# Altium schematic symbol library MB0011A.01.A.2.SchLib: 1 symbol
Pins are listed as number, name and electrical type; pins without a type are passive.

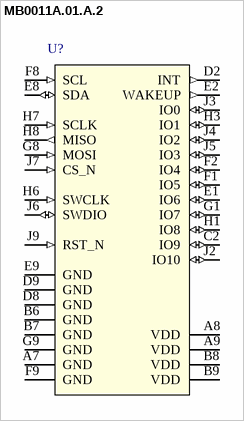
[diagram p0: symbol MB0011A.01.A.2]

## MB0011A.01.A.2
designator U?
pins: A7 GND (power), A8 VDD (power), A9 VDD (power), B6 GND (power), B7 GND (power), B8 VDD (power), B9 VDD (power), C2 IO9 (io), D2 INT (out), D8 GND (power), D9 GND (power), E1 IO6 (io), E2 WAKEUP (out), E8 SDA (io), E9 GND (power), F1 IO5 (io), F2 IO4 (io), F8 SCL (in), F9 GND (power), G1 IO7 (io), G8 MOSI (in), G9 GND (power), H1 IO8 (io), H3 IO1 (io), H6 SWCLK (in), H7 SCLK (in), H8 MISO (out), J2 IO10 (io), J3 IO0 (io), J4 IO2 (io), J5 IO3 (io), J6 SWDIO (io), J7 CS_N (in), J9 RST_N (in)